# EAGLE library part BH7636*FV (library 5G8_fpv)
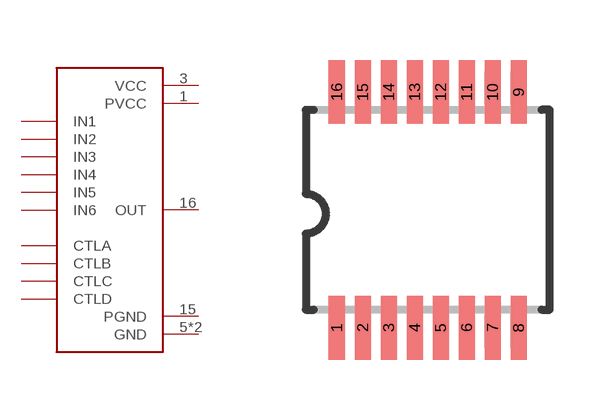
[diagram p2: symbol with the pads of TSSOP16; footprint TSSOP16]

Designator prefix -

## BH7636FV  [TSSOP16]
1  PVCC
2  IN1
3  VCC
4  IN2
5  GND
6  IN3
7  GND
8  IN4
9  IN5
10  CTLA
11  IN6
12  CTLB
13  CTLC
14  CTLD
15  PGND
16  OUT

## Footprint TSSOP16 (pad centres in mm)
TSOP16 thin small outline package
smd 0.4 x 1.6: 1 -2.225,-2.85; 2 -1.575,-2.85; 3 -0.925,-2.85; 4 -0.275,-2.85; 5 0.375,-2.85; 6 1.025,-2.85; 7 1.675,-2.85; 8 2.325,-2.85; 9 2.325,3.05; 10 1.675,3.05; 11 1.025,3.05; 12 0.375,3.05; 13 -0.275,3.05; 14 -0.925,3.05; 15 -1.575,3.05; 16 -2.225,3.05